# EAGLE library part RIACON-6 (library con-riacon)
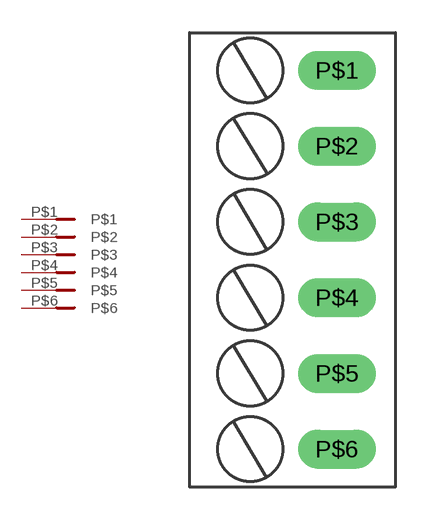
[diagram p0: symbol with the pads of RIACON-6; footprint RIACON-6]

Designator prefix -

## RIACON-6  [RIACON-6]
P$1  P$1
P$2  P$2
P$3  P$3
P$4  P$4
P$5  P$5
P$6  P$6

## Footprint RIACON-6 (pad centres in mm)
drill 1.2 long: P$1 0,8.75; P$2 0,5.25; P$3 0,1.75; P$4 0,-1.75; P$5 0,-5.25; P$6 0,-8.75